# Altium footprint library PCB - LEADLESS - LFCSP - AD LFCSP-8 3x3MM CP-8-5.PcbLib: 1 footprints
Each footprint in its own frame and in the unit in brackets; x right, y up, seen from the top. Pads: shape width x height; smd on the part's side, far side on the other; paste and mask are expansions set on the pad; w line width, h text height; cw(c..) or ccw(c..) is an arc to the next point about the centre after c.
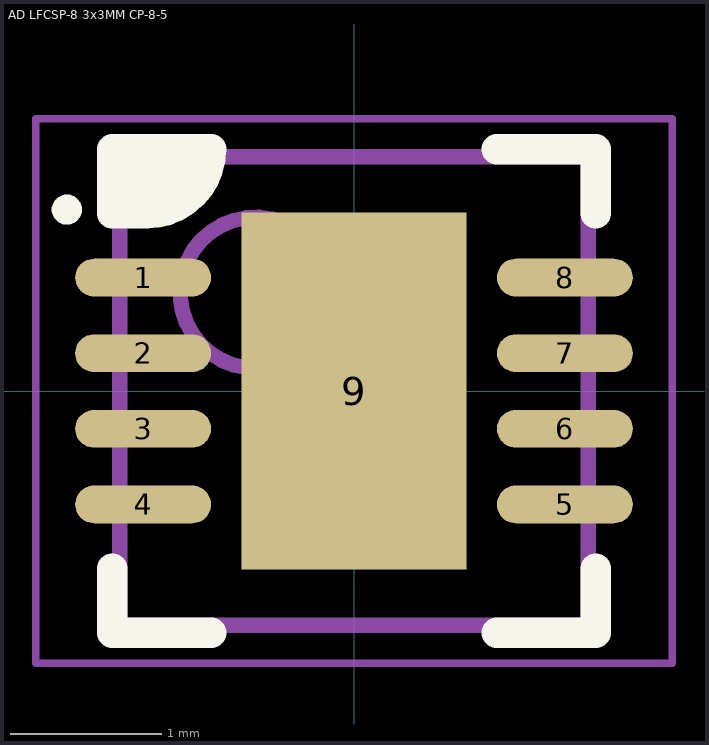
[diagram p0: the footprint, top view; thin cyan lines are the x and y axes]

## AD LFCSP-8 3x3MM CP-8-5 [mm] "SON, 8-Leads, Body 3.00x3.00mm, Pitch 0.50mm, Thermal Pad 2.36x1.49mm, IPC Medium Density"
height 0.8
pads (9):
  oval 0.9x0.25 smd: 1(-1.395,0.75) 2(-1.395,0.25) 3(-1.395,-0.25) 4(-1.395,-0.75) 5(1.395,-0.75) 6(1.395,-0.25) 7(1.395,0.25) 8(1.395,0.75)
  rect 1.49x2.36 smd: 9(0,0)
Top Overlay:
  circle w0.1: c-1.9,1.2 r0.05
  region: -1.6,1.6 -1.6,1.175 -1.225,1.175 -0.945,1.455 -0.945,1.6
  lines w0.2: -1.6,-1.175 -1.6,-1.6 -0.945,-1.6 ; 0.945,-1.6 1.6,-1.6 1.6,-1.175 ; 0.945,1.6 1.6,1.6 1.6,1.175 ; -1.6,1.175 -1.37,1.175 ccw(c-1.37,1.6) -0.945,1.6 -1.6,1.6 -1.6,1.175
Mechanical 13:
  circle w0.1: c-0.65,0.65 r0.5
  lines w0.1: -1.55,-1.55 -1.55,1.55 1.55,1.55 1.55,-1.55 -1.55,-1.55
Mechanical 15:
  lines w0.05: -2.105,-1.8 -2.105,1.8 2.105,1.8 2.105,-1.8 -2.105,-1.8
  lines w0.1: -0.5,0 0.5,0 ; 0,-0.5 0,0.5
3D body "SON50P300X80_HS-9N.step": height 0.8, standoff 0, extent -1.57,-1.55 1.57,1.55